# EAGLE library part 6N137 (library steves)
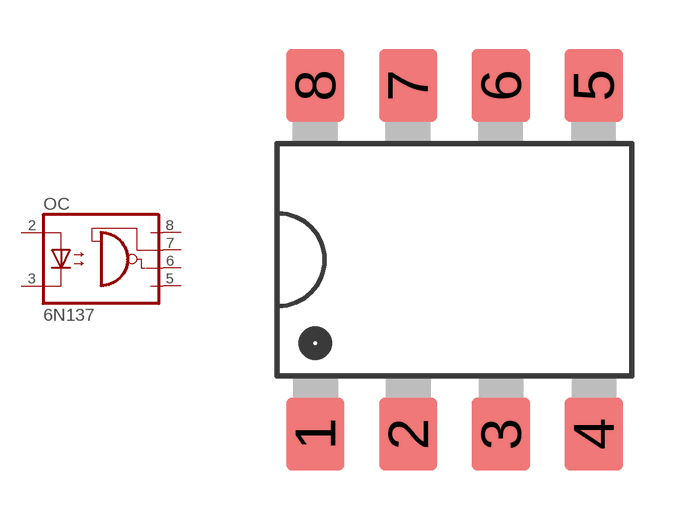
[diagram p24: symbol with the pads of SMD8; footprint SMD8]

Designator prefix OC

## 6N137S  [SMD8]
2  A  pas
3  C  pas
5  GND  pas
6  VO  pas
7  VE  pas
8  VCC  pas

## Footprint SMD8 (pad centres in mm)
smd 1.6 x 2: 1 -3.81,-4.77; 2 -1.27,-4.77; 3 1.27,-4.77; 4 3.81,-4.77; 5 3.81,4.77; 6 1.27,4.77; 7 -1.27,4.77; 8 -3.81,4.77